# Altium footprint library Arduino_FPGA_Shield.PcbLib: 31 footprints (part 2 of 2)
Each footprint in its own frame and in the unit in brackets; x right, y up, seen from the top. Pads: shape width x height; smd on the part's side, far side on the other; paste and mask are expansions set on the pad; w line width, h text height; cw(c..) or ccw(c..) is an arc to the next point about the centre after c.
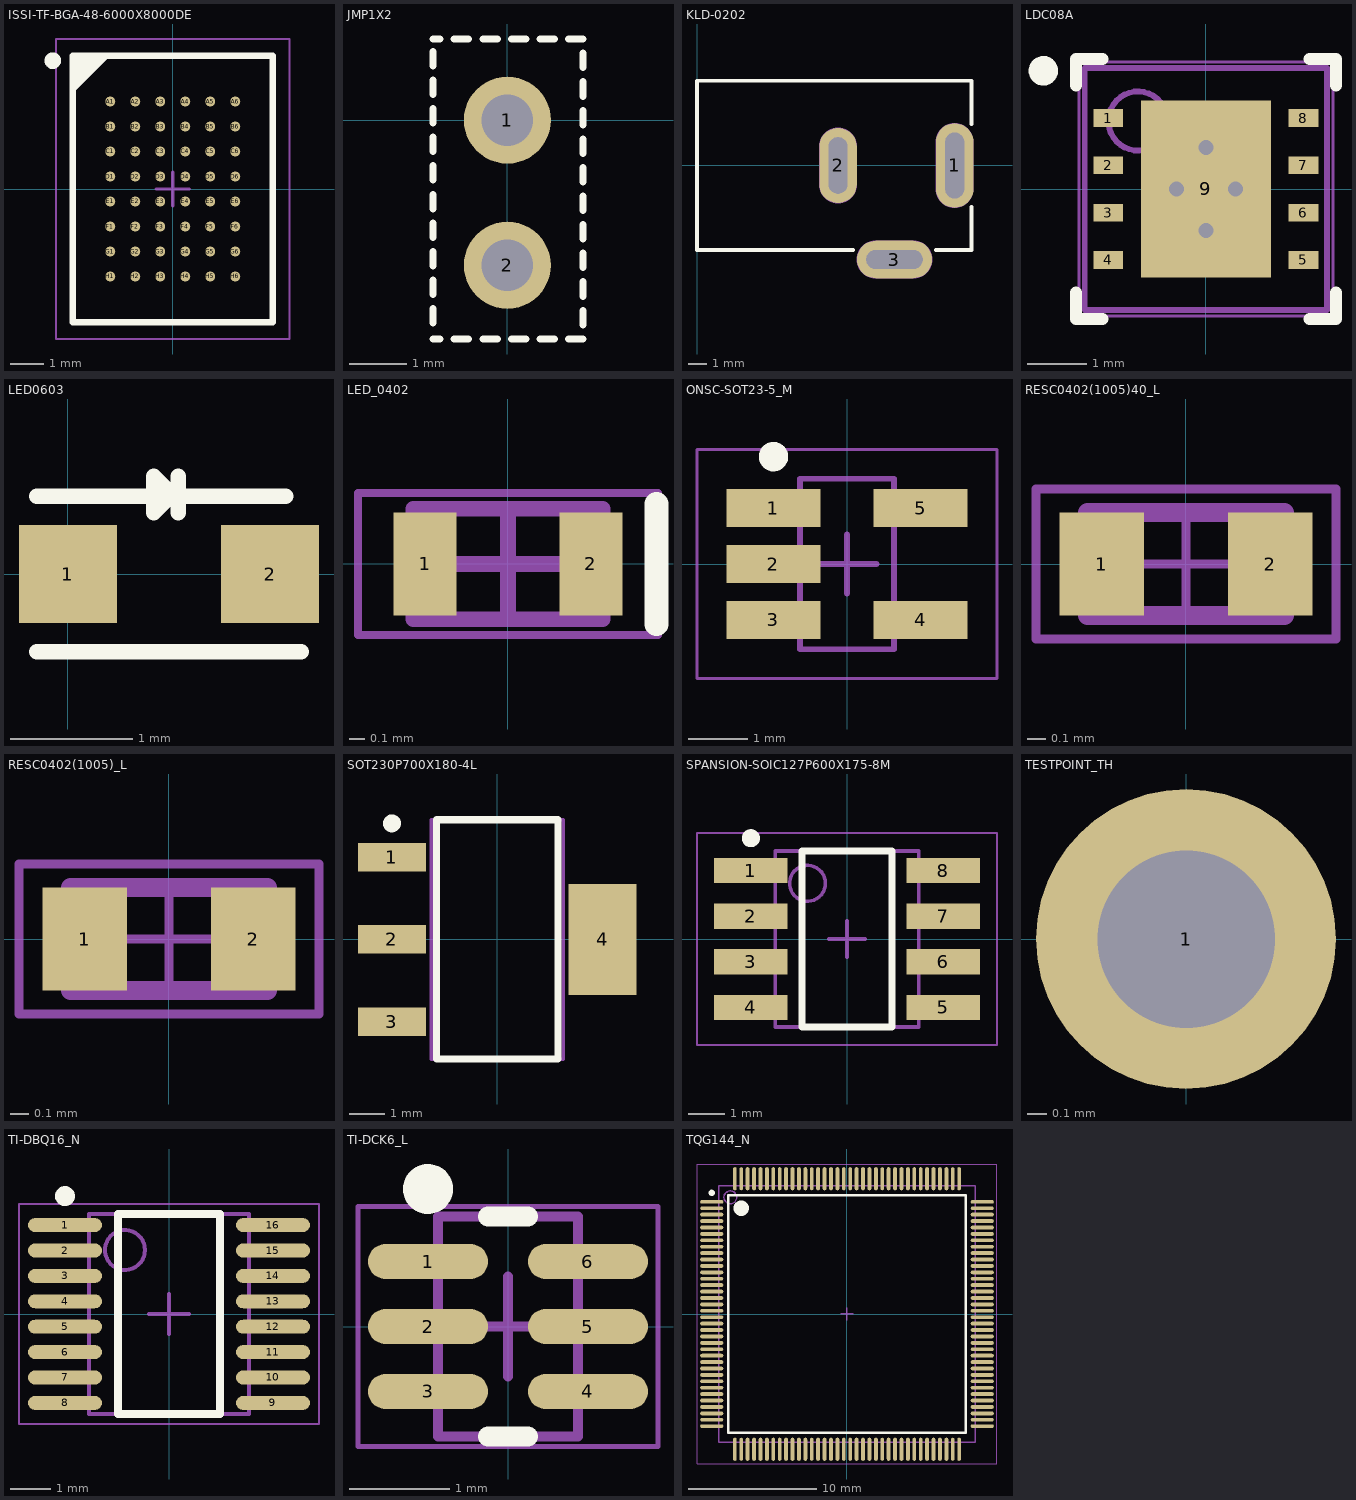
[diagram p1: the footprints below, top view; thin cyan lines are the x and y axes]

## ISSI-TF-BGA-48-6000X8000DE [mm] "BGA, 48-Balls, Body 8x6mm, Pitch 0.75mm"
height 1.2
pads (48):
  round 0.3 smd: A1(-1.875,2.625) A2(-1.125,2.625) A3(-0.375,2.625) A4(0.375,2.625) A5(1.125,2.625) A6(1.875,2.625) B1(-1.875,1.875) B2(-1.125,1.875) B3(-0.375,1.875) B4(0.375,1.875) B5(1.125,1.875) B6(1.875,1.875) C1(-1.875,1.125) C2(-1.125,1.125) C3(-0.375,1.125) C4(0.375,1.125) C5(1.125,1.125) C6(1.875,1.125) D1(-1.875,0.375) D2(-1.125,0.375) D3(-0.375,0.375) D4(0.375,0.375) D5(1.125,0.375) D6(1.875,0.375) E1(-1.875,-0.375) E2(-1.125,-0.375) E3(-0.375,-0.375) E4(0.375,-0.375) E5(1.125,-0.375) E6(1.875,-0.375) F1(-1.875,-1.125) F2(-1.125,-1.125) F3(-0.375,-1.125) F4(0.375,-1.125) F5(1.125,-1.125) F6(1.875,-1.125) G1(-1.875,-1.875) G2(-1.125,-1.875) G3(-0.375,-1.875) G4(0.375,-1.875) G5(1.125,-1.875) G6(1.875,-1.875) H1(-1.875,-2.625) H2(-1.125,-2.625) H3(-0.375,-2.625) H4(0.375,-2.625) H5(1.125,-2.625) H6(1.875,-2.625)
Top Overlay:
  circle w0.25: c-3.6,3.85 r0.125
  region: -2,4 -3,3 -3,4
  lines w0.2: -3,3 -2,4 ; -3,-4 -3,4 3,4 3,-4 -3,-4
Mechanical 13:
  lines w0.1: -3,-4 -3,4 3,4 3,-4 -3,-4
Mechanical 15:
  lines w0.05: -3.5,-4.5 -3.5,4.5 3.5,4.5 3.5,-4.5 -3.5,-4.5
  lines w0.1: -0.5,0 0.5,0 ; 0,-0.5 0,0.5
3D body: height 1.1, standoff 0, extent -3,-4 3,4

## JMP1X2 [mil]
pads (2):
  round 60 hole 35.5: 1(0,0) 2(0,-100)
Top Overlay:
  lines w5: -51.18,-150.8 -46.41,-150.8 ; -51.18,-100.39 -51.18,-90.55 ; -51.18,-80.71 -51.18,-70.87 ; -51.18,-61.02 -51.18,-51.18 ; -51.18,-41.34 -51.18,-31.5 ; -51.18,-21.65 -51.18,-11.81 ; -51.18,-1.97 -51.18,7.87 ; -51.18,17.72 -51.18,27.56 ; -51.18,37.4 -51.18,47.24 ; -51.18,55.89 -46.41,55.89 ; -36.57,55.89 -26.72,55.89 ; -16.88,-150.8 -7.04,-150.8 ; -16.88,55.89 -7.04,55.89 ; 2.8,-150.8 12.65,-150.8 ; 2.8,55.89 12.65,55.89 ; 22.49,-150.8 32.33,-150.8 ; 42.17,-150.8 52.02,-150.8 ; 42.17,55.89 52.02,55.89 ; 52.02,-101.59 52.02,-91.75 ; 52.02,-81.91 52.02,-72.06 ; 52.02,-62.22 52.02,-52.38 ; 52.02,-42.54 52.02,-32.69 ; 52.02,-22.85 52.02,-13.01 ; 52.02,-3.17 52.02,6.68 ; 52.02,16.52 52.02,26.36 ; 52.02,36.2 52.02,46.05 ; -51.18,-139.76 -51.18,-129.92 -51.18,-139.76 ; -51.18,-120.08 -51.18,-110.24 -51.18,-120.08 ; -36.57,-150.8 -26.72,-150.8 -36.57,-150.8 ; 22.49,55.89 32.33,55.89 22.49,55.89 ; 52.02,-140.96 52.02,-131.12 52.02,-140.96 ; 52.02,-121.28 52.02,-111.43 52.02,-121.28
3D body: height 323.43, standoff -117.51, extent -49.05,-153.94 49.32,46.06

## KLD-0202 [mm] "DC Power Jack, 2.5mm, KLD Series, PCB Mount"
height 1.2
pads (3):
  oval 2x4.5 hole 1 slot 3.5 at 90 deg: 1(13.7,0)
  oval 2x4 hole 1 slot 3 at 90 deg: 2(7.5,0)
  oval 4x2 hole 1 slot 3 at 0 deg: 3(10.5,-5)
Top Overlay:
  lines w0.2: 8.3,-4.5 0,-4.5 0,4.5 14.6,4.5 14.6,2.2 ; 12.7,-4.5 14.6,-4.5 14.6,-2.2
Mechanical 1:
  lines w1: 7.5,-1 7.5,1 ; 9.5,-5 11.5,-5 ; 13.7,-1.25 13.7,1.25
Mechanical 2:
  lines w2.016: 7.5,-1 7.5,1 ; 9.5,-5 11.5,-5 ; 13.7,-1.25 13.7,1.25
3D body: height 11.02, standoff -3.48, extent -0.126,-4.753 13.7,4.753

## LDC08A [mm] "PSON, 8-Leads, Body 4x4mm, Pitch 0.8mm, NSC Recommended"
height 0.8
pads (9):
  rect 0.5x0.3 smd paste-0.15 mask+0.051: 1(-1.65,1.2) 2(-1.65,0.4) 3(-1.65,-0.4) 4(-1.65,-1.2) 5(1.65,-1.2) 6(1.65,-0.4) 7(1.65,0.4) 8(1.65,1.2)
  rect 2.2x3 smd paste-1.5 mask+0.051: 9(0,0)
via 0,-0.7 diameter 0.5 hole 0.254
via 0,0.7 diameter 0.5 hole 0.254
via 0.5,0 diameter 0.5 hole 0.254
via -0.5,0 diameter 0.5 hole 0.254
Top Overlay:
  circle w0.25: c-2.75,2 r0.125
  lines w0.2: -2.2,-1.75 -2.2,-2.2 -1.75,-2.2 ; -2.2,1.75 -2.2,2.2 -1.75,2.2 ; 1.75,-2.2 2.2,-2.2 2.2,-1.75 ; 1.75,2.2 2.2,2.2 2.2,1.75
Top Paste:
  region: -2,1.349 -2,1.049 -1.5,1.049 -1.5,1.349
  region: -1.999,0.549 -1.999,0.249 -1.499,0.249 -1.499,0.549
  region: -1.999,-0.25 -1.999,-0.55 -1.499,-0.55 -1.499,-0.25
  region: -2,-1.049 -2,-1.349 -1.5,-1.349 -1.5,-1.049
  region: 1.5,-1.049 1.5,-1.349 2,-1.349 2,-1.049
  region: 1.499,-0.25 1.499,-0.55 1.999,-0.55 1.999,-0.25
  region: 1.499,0.549 1.499,0.249 1.999,0.249 1.999,0.549
  region: 1.5,1.349 1.5,1.049 2,1.049 2,1.349
  region: 1,-0.149 0.15,-0.149 0.15,-1.399 1,-1.399
  rectangle: -1,-1.4 -0.15,-0.15
  rectangle: -1,0.15 -0.15,1.4
  region: 1,1.4 0.15,1.4 0.15,0.15 1,0.15
Mechanical 13:
  circle w0.1: c-1.15,1.15 r0.5
  lines w0.1: -2.05,-2.05 -2.05,2.05 2.05,2.05 2.05,-2.05 -2.05,-2.05
Mechanical 15:
  lines w0.05: -2.15,-2.15 -2.15,2.15 2.15,2.15 2.15,-2.15 -2.15,-2.15
  lines w0.1: -0.5,0 0.5,0 ; 0,-0.5 0,0.5
3D body: height 0.8, standoff 0, extent -2.05,-2.05 2.05,2.05

## LED0603 [mm]
height 1.2
pads (2):
  rect 0.8x0.8 smd: 1(0,0) 2(1.651,0)
Top Overlay:
  lines w0.127: -0.254,-0.635 1.905,-0.635 ; -0.254,0.635 1.778,0.635 ; 0.9,0.5 0.9,0.635 ; 0.9,0.8 0.9,0.635 ; 0.835,0.635 0.9,0.635 ; 0.835,0.635 0.7,0.5 0.7,0.8 0.835,0.665 0.835,0.635
3D body: height 0.9, standoff 0, extent 0,-0.455 1.7,0.445

## LED_0402 [mm]
height 0.45
pads (2):
  rect 0.4x0.65 smd: 1(-0.525,0) 2(0.525,0)
Top Overlay:
  lines w0.15: 0.94,-0.382 0.94,0.38
Mechanical 13:
  lines w0.1: -0.6,-0.35 0.6,-0.35 0.6,0.35 -0.6,0.35 -0.6,-0.35
Mechanical 15:
  lines w0.05: -0.95,-0.45 0.95,-0.45 0.95,0.45 -0.95,0.45 -0.95,-0.45
  lines w0.1: -0.35,0 0.35,0 ; 0,-0.35 0,0.35
3D body: height 0.44, standoff -0.01, extent -0.525,-0.25 0.485,0.25

## ONSC-SOT23-5_M [mm] "SOT23, 5-Leads, Body 2.90x1.6mm, Pitch 0.95mm, IPC Low Density"
height 1
pads (5):
  rect 1.6x0.65 smd: 1(-1.25,0.95) 2(-1.25,0) 3(-1.25,-0.95) 4(1.25,-0.95) 5(1.25,0.95)
Top Overlay:
  circle w0.25: c-1.25,1.825 r0.125
Mechanical 13:
  lines w0.1: -0.8,-1.45 -0.8,1.45 0.8,1.45 0.8,-1.45 -0.8,-1.45
Mechanical 15:
  lines w0.05: -2.55,-1.95 -2.55,1.95 2.55,1.95 2.55,-1.95 -2.55,-1.95
  lines w0.1: -0.5,0 0.5,0 ; 0,-0.5 0,0.5
3D body: height 1, standoff 0.01, extent -0.8,-1.45 0.8,1.45

## RESC0402(1005)40_L [mm] "Chip Resistor, Body 1.0x0.5mm, IPC High Density"
height 0.4
pads (2):
  rect 0.45x0.55 smd: 1(-0.45,0) 2(0.45,0)
Mechanical 13:
  lines w0.1: -0.525,-0.275 -0.525,0.275 0.525,0.275 0.525,-0.275 -0.525,-0.275
Mechanical 15:
  lines w0.05: -0.275,0 0.275,0 ; 0,-0.275 0,0.275 ; -0.8,-0.4 -0.8,0.4 0.8,0.4 0.8,-0.4 -0.8,-0.4
3D body: height 0.4, standoff 0, extent -0.525,-0.275 -0.3,0.275
3D body: height 0.4, standoff 0, extent -0.3,-0.275 0.3,0.275
3D body: height 0.4, standoff 0, extent 0.3,-0.275 0.525,0.275

## RESC0402(1005)_L [mm] "Chip Resistor, Body 1.0x0.5mm, IPC High Density"
height 0.4
pads (2):
  rect 0.45x0.55 smd: 1(-0.45,0) 2(0.45,0)
Mechanical 13:
  lines w0.1: -0.525,-0.275 -0.525,0.275 0.525,0.275 0.525,-0.275 -0.525,-0.275
Mechanical 15:
  lines w0.05: -0.275,0 0.275,0 ; 0,-0.275 0,0.275 ; -0.8,-0.4 -0.8,0.4 0.8,0.4 0.8,-0.4 -0.8,-0.4
3D body: height 0.4, standoff 0, extent -0.525,-0.275 -0.3,0.275
3D body: height 0.4, standoff 0, extent -0.3,-0.275 0.3,0.275
3D body: height 0.4, standoff 0, extent 0.3,-0.275 0.525,0.275

## SOT230P700X180-4L [mm] "SOT223, 4-Leads, Body 6.50x7.00mm (avg), Pitch 2.30mm, IPC High Density"
height 1.8
pads (4):
  rect 1.9x0.8 smd: 1(-2.95,2.3) 2(-2.95,0) 3(-2.95,-2.3)
  rect 1.9x3.1 smd: 4(2.95,0)
Top Overlay:
  circle w0.25: c-2.95,3.25 r0.125
  lines w0.2: -1.7,-3.35 1.7,-3.35 1.7,3.35 -1.7,3.35 -1.7,-3.35
Mechanical 13:
  lines w0.1: -1.85,-3.35 1.85,-3.35 1.85,3.35 -1.85,3.35 -1.85,-3.35
3D body: height 1.8, standoff 0.02, extent -1.85,-3.35 1.85,3.35

## SPANSION-SOIC127P600X175-8M [mm] "SOIC, 8-Leads, Body 4.90x3.95mm, Pitch 1.27mm, IPC Low Density"
height 1.75
pads (8):
  rect 2.05x0.7 smd: 1(-2.675,1.905) 2(-2.675,0.635) 3(-2.675,-0.635) 4(-2.675,-1.905) 5(2.675,-1.905) 6(2.675,-0.635) 7(2.675,0.635) 8(2.675,1.905)
Top Overlay:
  circle w0.25: c-2.675,2.805 r0.125
  lines w0.2: -1.25,-2.45 1.25,-2.45 1.25,2.45 -1.25,2.45 -1.25,-2.45
Mechanical 13:
  circle w0.1: c-1.1,1.55 r0.5
  lines w0.1: -2,-2.45 2,-2.45 2,2.45 -2,2.45 -2,-2.45
Mechanical 15:
  lines w0.05: -4.175,-2.95 4.175,-2.95 4.175,2.95 -4.175,2.95 -4.175,-2.95
  lines w0.1: -0.5,0 0.5,0 ; 0,-0.5 0,0.5
3D body: height 1.72, standoff -0.03, extent -3,-2.45 3,2.45

## TESTPOINT_TH [mil]
height 47.24
pads (1):
  round 60 hole 35.5: 1(0,0)

## TI-DBQ16_N [mm] "SOP, 16-Leads, Body 4.9x3.9mm, Pitch 0.635mm, IPC Medium Density"
height 1.75
pads (16):
  oval 1.85x0.35 smd: 1(-2.6,2.222) 2(-2.6,1.587) 3(-2.6,0.953) 4(-2.6,0.318) 5(-2.6,-0.318) 6(-2.6,-0.953) 7(-2.6,-1.587) 8(-2.6,-2.222) 9(2.6,-2.222) 10(2.6,-1.587) 11(2.6,-0.953) 12(2.6,-0.318) 13(2.6,0.318) 14(2.6,0.953) 15(2.6,1.587) 16(2.6,2.222)
Top Overlay:
  circle w0.25: c-2.6,2.947 r0.125
  lines w0.2: -1.275,-2.5 1.275,-2.5 1.275,2.5 -1.275,2.5 -1.275,-2.5
Mechanical 13:
  circle w0.1: c-1.1,1.6 r0.5
  lines w0.1: -2,-2.5 2,-2.5 2,2.5 -2,2.5 -2,-2.5
Mechanical 15:
  lines w0.05: -3.75,-2.75 3.75,-2.75 3.75,2.75 -3.75,2.75 -3.75,-2.75
  lines w0.1: -0.5,0 0.5,0 ; 0,-0.5 0,0.5
3D body: height 1.75, standoff -0.02, extent -3.01,-2.49 3.01,2.49

## TI-DCK6_L [mm] "SOP, 6-Leads, Body 2x1.25mm, Pitch 0.65mm, IPC High Density"
height 1.1
pads (6):
  oval 1.2x0.35 smd: 1(-0.8,0.65) 2(-0.8,0) 3(-0.8,-0.65) 4(0.8,-0.65) 5(0.8,0) 6(0.8,0.65)
Top Overlay:
  circle w0.25: c-0.8,1.375 r0.125
  lines w0.2: -0.2,-1.1 0.2,-1.1 ; -0.2,1.1 0.2,1.1
Mechanical 13:
  lines w0.1: -0.7,-1.1 -0.7,1.1 0.7,1.1 0.7,-1.1 -0.7,-1.1
Mechanical 15:
  lines w0.05: -1.5,-1.2 -1.5,1.2 1.5,1.2 1.5,-1.2 -1.5,-1.2
  lines w0.1: -0.5,0 0.5,0 ; 0,-0.5 0,0.5
3D body: height 0.93, standoff -0.02, extent -1.05,-1 1.05,1

## TQG144_N [mm] "Thin QFP, 144-Leads, Body 20x20mm, Pitch 0.5mm, IPC Medium Density"
height 1.6
pads (144):
  oval 1.8x0.3 smd: 1(-10.55,8.75) 2(-10.55,8.25) 3(-10.55,7.75) 4(-10.55,7.25) 5(-10.55,6.75) 6(-10.55,6.25) 7(-10.55,5.75) 8(-10.55,5.25) 9(-10.55,4.75) 10(-10.55,4.25) 11(-10.55,3.75) 12(-10.55,3.25) 13(-10.55,2.75) 14(-10.55,2.25) 15(-10.55,1.75) 16(-10.55,1.25) 17(-10.55,0.75) 18(-10.55,0.25) 19(-10.55,-0.25) 20(-10.55,-0.75) 21(-10.55,-1.25) 22(-10.55,-1.75) 23(-10.55,-2.25) 24(-10.55,-2.75) 25(-10.55,-3.25) 26(-10.55,-3.75) 27(-10.55,-4.25) 28(-10.55,-4.75) 29(-10.55,-5.25) 30(-10.55,-5.75) 31(-10.55,-6.25) 32(-10.55,-6.75) 33(-10.55,-7.25) 34(-10.55,-7.75) 35(-10.55,-8.25) 36(-10.55,-8.75) 73(10.55,-8.75) 74(10.55,-8.25) 75(10.55,-7.75) 76(10.55,-7.25) 77(10.55,-6.75) 78(10.55,-6.25) 79(10.55,-5.75) 80(10.55,-5.25) 81(10.55,-4.75) 82(10.55,-4.25) 83(10.55,-3.75) 84(10.55,-3.25) 85(10.55,-2.75) 86(10.55,-2.25) 87(10.55,-1.75) 88(10.55,-1.25) 89(10.55,-0.75) 90(10.55,-0.25) 91(10.55,0.25) 92(10.55,0.75) 93(10.55,1.25) 94(10.55,1.75) 95(10.55,2.25) 96(10.55,2.75) 97(10.55,3.25) 98(10.55,3.75) 99(10.55,4.25) 100(10.55,4.75) 101(10.55,5.25) 102(10.55,5.75) 103(10.55,6.25) 104(10.55,6.75) 105(10.55,7.25) 106(10.55,7.75) 107(10.55,8.25) 108(10.55,8.75)
  oval 0.3x1.8 smd: 37(-8.75,-10.55) 38(-8.25,-10.55) 39(-7.75,-10.55) 40(-7.25,-10.55) 41(-6.75,-10.55) 42(-6.25,-10.55) 43(-5.75,-10.55) 44(-5.25,-10.55) 45(-4.75,-10.55) 46(-4.25,-10.55) 47(-3.75,-10.55) 48(-3.25,-10.55) 49(-2.75,-10.55) 50(-2.25,-10.55) 51(-1.75,-10.55) 52(-1.25,-10.55) 53(-0.75,-10.55) 54(-0.25,-10.55) 55(0.25,-10.55) 56(0.75,-10.55) 57(1.25,-10.55) 58(1.75,-10.55) 59(2.25,-10.55) 60(2.75,-10.55) 61(3.25,-10.55) 62(3.75,-10.55) 63(4.25,-10.55) 64(4.75,-10.55) 65(5.25,-10.55) 66(5.75,-10.55) 67(6.25,-10.55) 68(6.75,-10.55) 69(7.25,-10.55) 70(7.75,-10.55) 71(8.25,-10.55) 72(8.75,-10.55) 109(8.75,10.55) 110(8.25,10.55) 111(7.75,10.55) 112(7.25,10.55) 113(6.75,10.55) 114(6.25,10.55) 115(5.75,10.55) 116(5.25,10.55) 117(4.75,10.55) 118(4.25,10.55) 119(3.75,10.55) 120(3.25,10.55) 121(2.75,10.55) 122(2.25,10.55) 123(1.75,10.55) 124(1.25,10.55) 125(0.75,10.55) 126(0.25,10.55) 127(-0.25,10.55) 128(-0.75,10.55) 129(-1.25,10.55) 130(-1.75,10.55) 131(-2.25,10.55) 132(-2.75,10.55) 133(-3.25,10.55) 134(-3.75,10.55) 135(-4.25,10.55) 136(-4.75,10.55) 137(-5.25,10.55) 138(-5.75,10.55) 139(-6.25,10.55) 140(-6.75,10.55) 141(-7.25,10.55) 142(-7.75,10.55) 143(-8.25,10.55) 144(-8.75,10.55)
Top Overlay:
  circle w0.6: c-8.25,8.25 r0.3
  circle w0.25: c-10.55,9.45 r0.125
  lines w0.2: -9.25,-9.25 9.25,-9.25 9.25,9.25 -9.25,9.25 -9.25,-9.25
Mechanical 13:
  circle w0.1: c-9.1,9.1 r0.5
  lines w0.1: -10,-10 10,-10 10,10 -10,10 -10,-10
Mechanical 15:
  lines w0.05: -11.7,-11.7 11.7,-11.7 11.7,11.7 -11.7,11.7 -11.7,-11.7
  lines w0.1: -0.5,0 0.5,0 ; 0,-0.5 0,0.5
3D body: height 1.73, standoff -0.02, extent -11,-11 11,11